# Altium footprint library PCB_IntegratedCircuit.PcbLib: 36 footprints (part 1 of 3)
Each footprint in its own frame and in the unit in brackets; x right, y up, seen from the top. Pads: shape width x height; smd on the part's side, far side on the other; paste and mask are expansions set on the pad; w line width, h text height; cw(c..) or ccw(c..) is an arc to the next point about the centre after c.
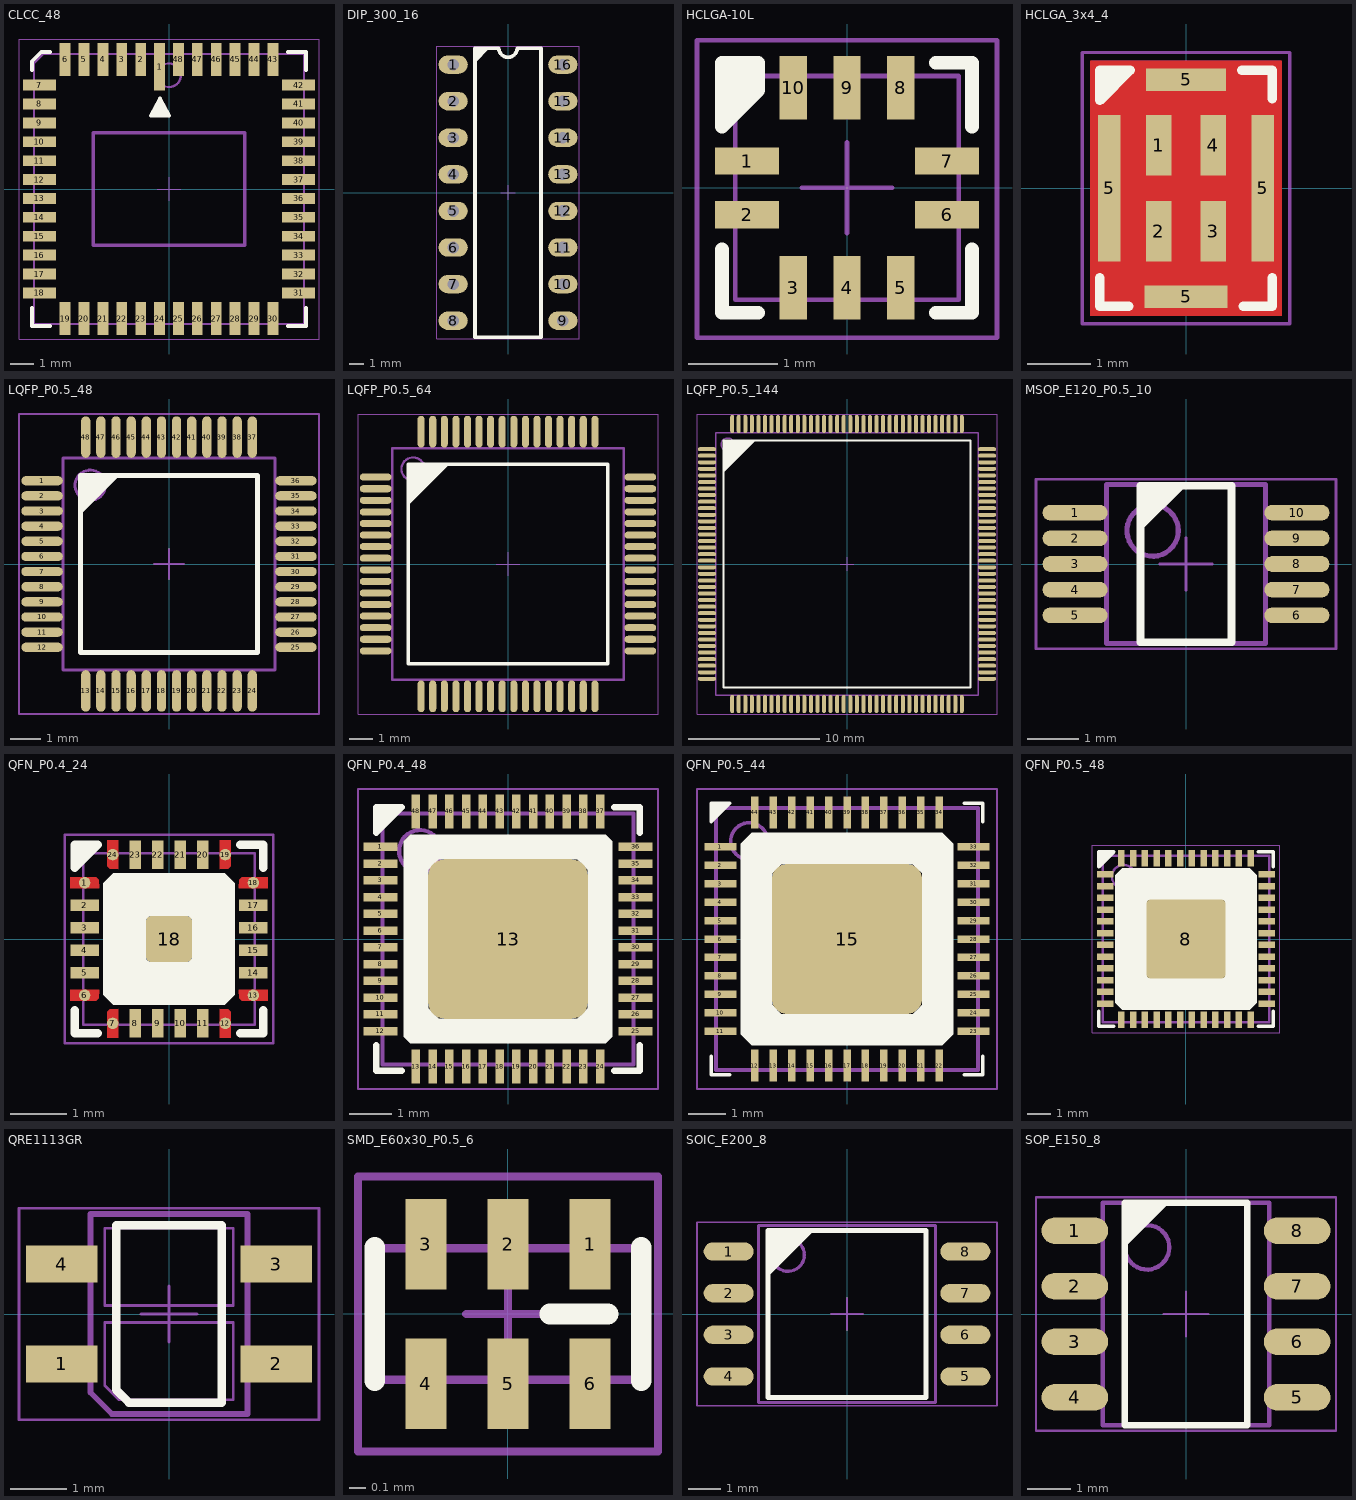
[diagram p0: the footprints below, top view; thin cyan lines are the x and y axes]

## CLCC_48 [mil]
height 90.55
pads (48):
  rect 18x79 smd: 1(-15.75,204)
  rect 18x55 smd: 2(-47.24,216) 3(-78.74,216) 4(-110.24,216) 5(-141.73,216) 6(-173.23,216) 19(-173.23,-216) 20(-141.73,-216) 21(-110.24,-216) 22(-78.74,-216) 23(-47.24,-216) 24(-15.75,-216) 25(15.75,-216) 26(47.24,-216) 27(78.74,-216) 28(110.24,-216) 29(141.73,-216) 30(173.23,-216) 43(173.23,216) 44(141.73,216) 45(110.24,216) 46(78.74,216) 47(47.24,216) 48(15.75,216)
  rect 55x18 smd: 7(-216,173.23) 8(-216,141.73) 9(-216,110.24) 10(-216,78.74) 11(-216,47.24) 12(-216,15.75) 13(-216,-15.75) 14(-216,-47.24) 15(-216,-78.74) 16(-216,-110.24) 17(-216,-141.73) 18(-216,-173.23) 31(216,-173.23) 32(216,-141.73) 33(216,-110.24) 34(216,-78.74) 35(216,-47.24) 36(216,-15.75) 37(216,15.75) 38(216,47.24) 39(216,78.74) 40(216,110.24) 41(216,141.73) 42(216,173.23)
Top Overlay:
  region: -15,151 -30.26,122 0.26,122
  lines w6: -228.35,-197.83 -228.35,-228.35 -197.83,-228.35 ; -228.35,197.83 -228.35,213.09 -213.09,228.35 -197.83,228.35 ; 197.83,-228.35 228.35,-228.35 228.35,-197.83 ; 197.83,228.35 228.35,228.35 228.35,197.83 ; -30.26,122 0.26,122 -15,151 -30.26,122
Mechanical 13:
  circle w3.94: c0,189.57 r19.68
  lines w2: -19.68,0 19.69,0 ; 0,-19.69 0,19.68
  lines w3.94: -225,-225 -225,209.74 -209.74,225 225,225 225,-225 -225,-225
  lines w6: -126,-94 -126,94 126,94 126,-94 -126,-94
T-Component:
  lines w2: -250,-250 250,-250 250,250 -250,250 -250,-250
3D body "User Library-CLCC48.STEP": height 79.69, standoff 0, extent -250,-250 250,250

## DIP_300_16 [mil]
pads (16):
  oval 80x50 hole 32: 1(-150,350) 2(-150,250) 3(-150,150) 4(-150,50) 5(-150,-50) 6(-150,-150) 7(-150,-250) 8(-150,-350) 9(150,-350) 10(150,-250) 11(150,-150) 12(150,-50) 13(150,50) 14(150,150) 15(150,250) 16(150,350)
Top Overlay:
  region: -90,394.69 -50.63,394.69 -90,355.31
  lines w10: -90,-395 90,-395 90,395 25,395 cw(c0,395) -25,395 -90,395 -90,-395
Mechanical 13:
  lines w2: -20,0 20,0 ; 0,-20 0,20
T-Component:
  lines w2: -195,-400 -195,400 195,400 195,-400 -195,-400
3D body "User Library-DIP16-22mm.STEP": height 202.76, standoff -98.03, extent -155,-433.07 154.84,433.07

## HCLGA-10L [mil]
height 31.5
pads (10):
  rect 28x12 smd: 1(-44,11.81) 2(-44,-11.81) 6(44,-11.81) 7(44,11.81)
  rect 12x28 smd: 3(-23.62,-44) 4(0,-44) 5(23.62,-44) 8(23.62,44) 9(0,44) 10(-23.62,44)
Top Overlay:
  region: -39,43 -39,55 -55,55 -55,27
  lines w6: -55,-27 -55,-55 -39,-55 ; 39,-55 55,-55 55,-27 ; 39,55 55,55 55,27 ; -55,27 -55,55 -39,55 -39,43 -55,27
Mechanical 13:
  lines w2: -20,0 20,0 ; 0,-20 0,20 ; -49.21,-49.21 -49.21,49.21 49.21,49.21 49.21,-49.21 -49.21,-49.21
T-Component:
  lines w2: -66,-66 66,-66 66,65 -66,65 -66,-66
3D body "User Library-DSK-10.STEP": height 33.3, standoff -0.17, extent -52.95,-51.1 53.35,51.26

## HCLGA_3x4_4 [mil]
pads (8):
  rect 16x38 smd: 1(-17,27) 2(-17,-27) 3(17,-27) 4(17,27)
  rect 14x92 smd: 5(-48,0) 5(48,0)
  rect 52x14 smd: 5(0,-68)
  rect 50x14 smd: 5(0,68)
Top Layer:
  pour cut-out: -60,80 60,80 60,-80 -60,-80
Top Overlay:
  region: -54,74 -35,74 -54,55
  lines w6: -54,-56 -54,-74 -36,-74 ; 35,74 54,74 54,56 ; 36,-74 54,-74 54,-56 ; -54,55 -54,74 -35,74 -54,55
Mechanical 13:
  circle w2: c0,-19.68 r15.75
  lines w2: -15,0 15,0 ; -0.01,-15.01 -0.01,14.99 ; -59,-79 59,-79 59,79 -59,79 -59,-79
T-Component:
  lines w2: -65,-85 -65,85 65,85 65,-85 -65,-85
3D body "User Library-DFN12(3x4).STEP": height 29.92, standoff 0, extent -59.09,-78.74 59.09,78.73

## LQFP_P0.5_48 [mil]
height 62.99
pads (48):
  oval 54x12 smd: 1(-165,108.27) 2(-165,88.58) 3(-165,68.9) 4(-165,49.21) 5(-165,29.53) 6(-165,9.84) 7(-165,-9.84) 8(-165,-29.53) 9(-165,-49.21) 10(-165,-68.9) 11(-165,-88.58) 12(-165,-108.27) 25(165,-108.27) 26(165,-88.58) 27(165,-68.9) 28(165,-49.21) 29(165,-29.53) 30(165,-9.84) 31(165,9.84) 32(165,29.53) 33(165,49.21) 34(165,68.9) 35(165,88.58) 36(165,108.27)
  oval 12x54 smd: 13(-108.27,-165) 14(-88.58,-165) 15(-68.9,-165) 16(-49.21,-165) 17(-29.53,-165) 18(-9.84,-165) 19(9.84,-165) 20(29.53,-165) 21(49.21,-165) 22(68.9,-165) 23(88.58,-165) 24(108.27,-165) 37(108.27,165) 38(88.58,165) 39(68.9,165) 40(49.21,165) 41(29.53,165) 42(9.84,165) 43(-9.84,165) 44(-29.53,165) 45(-49.21,165) 46(-68.9,165) 47(-88.58,165) 48(-108.27,165)
Top Overlay:
  region: -115,115 -65,115 -115,65
  lines w6: -115,-115 115,-115 115,115 -115,115 -115,-115
Mechanical 13:
  circle w3.94: c-102.36,102.36 r19.68
  lines w2: -20,0 20,0 ; 0,-20 0,20
  lines w3.94: -137.8,-137.8 137.8,-137.8 137.8,137.8 -137.8,137.8 -137.8,-137.8
T-Component:
  lines w2: -195,-195 -195,195 195,195 195,-195 -195,-195
3D body "SW3dPS-Quad50M48.STEP": height 61.42, standoff 0, extent -177.16,-177.66 177.17,176.67

## LQFP_P0.5_64 [mil]
height 47.24
pads (64):
  oval 54x12 smd: 1(-225,147.64) 2(-225,127.95) 3(-225,108.27) 4(-225,88.58) 5(-225,68.9) 6(-225,49.21) 7(-225,29.53) 8(-225,9.84) 9(-225,-9.84) 10(-225,-29.53) 11(-225,-49.21) 12(-225,-68.9) 13(-225,-88.58) 14(-225,-108.27) 15(-225,-127.95) 16(-225,-147.64) 33(225,-147.64) 34(225,-127.95) 35(225,-108.27) 36(225,-88.58) 37(225,-68.9) 38(225,-49.21) 39(225,-29.53) 40(225,-9.84) 41(225,9.84) 42(225,29.53) 43(225,49.21) 44(225,68.9) 45(225,88.58) 46(225,108.27) 47(225,127.95) 48(225,147.64)
  oval 12x54 smd: 17(-147.64,-225) 18(-127.95,-225) 19(-108.27,-225) 20(-88.58,-225) 21(-68.9,-225) 22(-49.21,-225) 23(-29.53,-225) 24(-9.84,-225) 25(9.84,-225) 26(29.53,-225) 27(49.21,-225) 28(68.9,-225) 29(88.58,-225) 30(108.27,-225) 31(127.95,-225) 32(147.64,-225) 49(147.64,225) 50(127.95,225) 51(108.27,225) 52(88.58,225) 53(68.9,225) 54(49.21,225) 55(29.53,225) 56(9.84,225) 57(-9.84,225) 58(-29.53,225) 59(-49.21,225) 60(-68.9,225) 61(-88.58,225) 62(-108.27,225) 63(-127.95,225) 64(-147.64,225)
Top Overlay:
  region: -169.29,169.29 -100,169.29 -169.29,100
  lines w6: -169.29,-169.29 169.29,-169.29 169.29,169.29 -169.29,169.29 -169.29,-169.29
Mechanical 13:
  circle w3.94: c-161.42,161.42 r19.68
  lines w2: -20,0 20,0 ; 0,-20 0,20
  lines w3.94: -196.85,-196.85 196.85,-196.85 196.85,196.85 -196.85,196.85 -196.85,-196.85
T-Component:
  lines w2: -255,-255 255,-255 255,255 -255,255 -255,-255
3D body "User Library-lqpf64.STEP": height 59.06, standoff 0.79, extent -236.21,-236.21 236.23,236.23

## LQFP_P0.5_144 [mil]
height 62.99
pads (144):
  oval 54x12 smd: 1(-420,344.49) 2(-420,324.8) 3(-420,305.12) 4(-420,285.43) 5(-420,265.75) 6(-420,246.06) 7(-420,226.38) 8(-420,206.69) 9(-420,187.01) 10(-420,167.32) 11(-420,147.64) 12(-420,127.95) 13(-420,108.27) 14(-420,88.58) 15(-420,68.9) 16(-420,49.21) 17(-420,29.53) 18(-420,9.84) 19(-420,-9.84) 20(-420,-29.53) 21(-420,-49.21) 22(-420,-68.9) 23(-420,-88.58) 24(-420,-108.27) 25(-420,-127.95) 26(-420,-147.64) 27(-420,-167.32) 28(-420,-187.01) 29(-420,-206.69) 30(-420,-226.38) 31(-420,-246.06) 32(-420,-265.75) 33(-420,-285.43) 34(-420,-305.12) 35(-420,-324.8) 36(-420,-344.49) 73(420,-344.49) 74(420,-324.8) 75(420,-305.12) 76(420,-285.43) 77(420,-265.75) 78(420,-246.06) 79(420,-226.38) 80(420,-206.69) 81(420,-187.01) 82(420,-167.32) 83(420,-147.64) 84(420,-127.95) 85(420,-108.27) 86(420,-88.58) 87(420,-68.9) 88(420,-49.21) 89(420,-29.53) 90(420,-9.84) 91(420,9.84) 92(420,29.53) 93(420,49.21) 94(420,68.9) 95(420,88.58) 96(420,108.27) 97(420,127.95) 98(420,147.64) 99(420,167.32) 100(420,187.01) 101(420,206.69) 102(420,226.38) 103(420,246.06) 104(420,265.75) 105(420,285.43) 106(420,305.12) 107(420,324.8) 108(420,344.49)
  oval 12x54 smd: 37(-344.49,-420) 38(-324.8,-420) 39(-305.12,-420) 40(-285.43,-420) 41(-265.75,-420) 42(-246.06,-420) 43(-226.38,-420) 44(-206.69,-420) 45(-187.01,-420) 46(-167.32,-420) 47(-147.64,-420) 48(-127.95,-420) 49(-108.27,-420) 50(-88.58,-420) 51(-68.9,-420) 52(-49.21,-420) 53(-29.53,-420) 54(-9.84,-420) 55(9.84,-420) 56(29.53,-420) 57(49.21,-420) 58(68.9,-420) 59(88.58,-420) 60(108.27,-420) 61(127.95,-420) 62(147.64,-420) 63(167.32,-420) 64(187.01,-420) 65(206.69,-420) 66(226.38,-420) 67(246.06,-420) 68(265.75,-420) 69(285.43,-420) 70(305.12,-420) 71(324.8,-420) 72(344.49,-420) 109(344.49,420) 110(324.8,420) 111(305.12,420) 112(285.43,420) 113(265.75,420) 114(246.06,420) 115(226.38,420) 116(206.69,420) 117(187.01,420) 118(167.32,420) 119(147.64,420) 120(127.95,420) 121(108.27,420) 122(88.58,420) 123(68.9,420) 124(49.21,420) 125(29.53,420) 126(9.84,420) 127(-9.84,420) 128(-29.53,420) 129(-49.21,420) 130(-68.9,420) 131(-88.58,420) 132(-108.27,420) 133(-127.95,420) 134(-147.64,420) 135(-167.32,420) 136(-187.01,420) 137(-206.69,420) 138(-226.38,420) 139(-246.06,420) 140(-265.75,420) 141(-285.43,420) 142(-305.12,420) 143(-324.8,420) 144(-344.49,420)
Top Overlay:
  region: -370,370 -275,370 -370,275
  lines w6: -370,-370 -370,370 370,370 370,-370 -370,-370
Mechanical 13:
  circle w4: c-358.27,358.27 r19.68
  lines w2: -20,0 20,0 ; 0,-20 0,20
  lines w4: -393.7,-393.7 -393.7,393.7 393.7,393.7 393.7,-393.7 -393.7,-393.7
T-Component:
  lines w2: -450,-450 450,-450 450,450 -450,450 -450,-450
3D body "User Library-LQFP144.STEP": height 62.99, standoff 0, extent -433.07,-433.07 433.08,433.07

## MSOP_E120_P0.5_10 [mil]
height 43.31
pads (10):
  oval 50x12 smd: 1(-85,39.37) 2(-85,19.69) 3(-85,0) 4(-85,-19.68) 5(-85,-39.37) 6(85,-39.37) 7(85,-19.68) 8(85,0) 9(85,19.69) 10(85,39.37)
Top Overlay:
  region: -35,60 0,60 -35,25
  lines w6: -35,-60 -35,60 35,60 35,-60 -35,-60
Mechanical 13:
  circle w3.94: c-25.59,25.59 r19.68
  lines w2: -20,0 20,0 ; 0,-20 0,20
  lines w3.94: -61.02,-61.02 61.02,-61.02 61.02,61.02 -61.02,61.02 -61.02,-61.02
T-Component:
  lines w2: -115,-65 115,-65 115,65 -115,65 -115,-65
3D body "User Library-msop-10.STEP": height 45.28, standoff 0, extent -96.45,-59.05 96.47,59.06

## QFN_P0.4_24 [mil]
height 39.37
pads (25):
  round 8 smd mask+0: 1(-59,39.37) 6(-59,-39.37) 7(-39.37,-59) 12(39.37,-59) 13(59,-39.37) 18(59,39.37) 19(39.37,59) 24(-39.37,59)
  rect 20x8 smd mask+1: 2(-59,23.62) 3(-59,7.87) 4(-59,-7.87) 5(-59,-23.62) 14(59,-23.62) 15(59,-7.87) 16(59,7.87) 17(59,23.62)
  rect 8x20 smd mask+1: 8(-23.62,-59) 9(-7.87,-59) 10(7.87,-59) 11(23.62,-59) 20(23.62,59) 21(7.87,59) 22(-7.87,59) 23(-23.62,59)
  rrect20% 32x32 smd: 18(0,0)
Top Layer:
  region: 35.37,-69 35.37,-49 41.37,-49 43.37,-51 43.37,-69
  region: -69,-35.37 -49,-35.37 -49,-41.37 -51,-43.37 -69,-43.37
  region: 69,35.37 49,35.37 49,41.37 51,43.37 69,43.37
  region: -35.37,69 -35.37,49 -41.37,49 -43.37,51 -43.37,69
  region: -69,43.37 -51,43.37 -49,41.37 -49,35.37 -69,35.37
  region: -43.37,-69 -43.37,-51 -41.37,-49 -35.37,-49 -35.37,-69
  region: 69,-43.37 51,-43.37 49,-41.37 49,-35.37 69,-35.37
  region: 43.37,69 43.37,51 41.37,49 35.37,49 35.37,69
Top Overlay:
  region: -66,66 -50,66 -66,50
  region: -39,46 39,46 46,39 46,-39 39,-46 12,-46 12,-16 14,-16 16,-14 16,14 14,16 -14,16 -16,14 -16,-14 -14,-16 12,-16 12,-46 -39,-46 -46,-39 -46,39
  lines w6: -66,-50 -66,-66 -50,-66 ; 50,-66 66,-66 66,-50 ; 50,66 66,66 66,50 ; -66,50 -50,66 -66,66 -66,50
Top Solder:
  rectangle: -46,-71 46,-47
  region: -71,46 -71,-46 -47,-46 -47,46
  region: 47,46 47,-46 71,-46 71,46
  rectangle: -46,47 46,71
  region: -34.45,69.88 -34.45,48.23 -41.77,48.23 -44.29,50.75 -44.29,69.88
  region: 69.88,-44.29 50.75,-44.29 48.23,-41.77 48.23,-34.45 69.88,-34.45
  region: 44.29,69.88 44.29,50.75 41.77,48.23 34.45,48.23 34.45,69.88
  region: 69.88,34.45 48.23,34.45 48.23,41.77 50.75,44.29 69.88,44.29
Mechanical 13:
  lines w2: -20,0 20,0 ; 0,-20 0,20 ; -60,-60 -60,60 60,60 60,-60 -60,-60
T-Component:
  lines w2: -73,-73 73,-73 73,73 -73,73 -73,-73
3D body "User Library-QFN-16.STEP": height 35.43, standoff 0, extent -59.09,-59.09 59.1,59.1

## QFN_P0.4_48 [mil]
height 35.43
pads (49):
  rect 32x8 smd: 1(-120,86.61) 2(-120,70.87) 3(-120,55.12) 4(-120,39.37) 5(-120,23.62) 6(-120,7.87) 7(-120,-7.87) 8(-120,-23.62) 9(-120,-39.37) 10(-120,-55.12) 11(-120,-70.87) 12(-120,-86.61) 25(120,-86.61) 26(120,-70.87) 27(120,-55.12) 28(120,-39.37) 29(120,-23.62) 30(120,-7.87) 31(120,7.87) 32(120,23.62) 33(120,39.37) 34(120,55.12) 35(120,70.87) 36(120,86.61)
  rect 8x32 smd: 13(-86.61,-120) 14(-70.87,-120) 15(-55.12,-120) 16(-39.37,-120) 17(-23.62,-120) 18(-7.87,-120) 19(7.87,-120) 20(23.62,-120) 21(39.37,-120) 22(55.12,-120) 23(70.87,-120) 24(86.61,-120) 37(86.61,120) 38(70.87,120) 39(55.12,120) 40(39.37,120) 41(23.62,120) 42(7.87,120) 43(-7.87,120) 44(-23.62,120) 45(-39.37,120) 46(-55.12,120) 47(-70.87,120) 48(-86.61,120)
  rrect20% 150x150 smd: 13(0,0)
Top Overlay:
  region: -98,92 -92,98 -65,98 -65,75 -75,65 -75,-65 -65,-75 65,-75 75,-65 75,65 65,75 -65,75 -65,98 92,98 98,92 98,-92 92,-98 -92,-98 -98,-92
  region: -124.02,124.02 -100,124.02 -124.02,100
  lines w6: -124.02,-100 -124.02,-124.02 -100,-124.02 ; 100,-124.02 124.02,-124.02 124.02,-100 ; 100,124.02 124.02,124.02 124.02,100 ; -124.02,100 -100,124.02 -124.02,124.02 -124.02,100
Mechanical 13:
  circle w3.94: c-82.68,82.68 r19.68
  lines w2: -20,0 20,0 ; 0,-20 0,20
  lines w3.94: -118.11,-118.11 118.11,-118.11 118.11,118.11 -118.11,118.11 -118.11,-118.11
T-Component:
  lines w2: -141,-141 141,-141 141,141 -141,141 -141,-141
3D body "User Library-QFN48.STEP": height 33.39, standoff -0.79, extent -118.8,-118.9 119,118.9

## QFN_P0.5_44 [mil]
height 39.37
pads (45):
  rect 34x8 smd: 1(-135,98.43) 2(-135,78.74) 3(-135,59.06) 4(-135,39.37) 5(-135,19.68) 6(-135,0) 7(-135,-19.69) 8(-135,-39.37) 9(-135,-59.06) 10(-135,-78.74) 11(-135,-98.43) 23(135,-98.43) 24(135,-78.74) 25(135,-59.06) 26(135,-39.37) 27(135,-19.69) 28(135,0) 29(135,19.68) 30(135,39.37) 31(135,59.06) 32(135,78.74) 33(135,98.43)
  rect 8x34 smd: 12(-98.43,-135) 13(-78.74,-135) 14(-59.06,-135) 15(-39.37,-135) 16(-19.68,-135) 17(0,-135) 18(19.69,-135) 19(39.37,-135) 20(59.06,-135) 21(78.74,-135) 22(98.43,-135) 34(98.43,135) 35(78.74,135) 36(59.06,135) 37(39.37,135) 38(19.69,135) 39(0,135) 40(-19.68,135) 41(-39.37,135) 42(-59.06,135) 43(-78.74,135) 44(-98.43,135)
  rrect20% 160x160 smd: 15(0,0)
Top Overlay:
  region: -144.91,144.91 -125,144.91 -144.91,125
  region: 113.14,101.86 113.14,-101.86 101.86,-113.14 -101.86,-113.14 -113.14,-101.86 -113.14,101.86 -101.86,113.14 101.86,113.14 107.5,107.5 75,75 70,80 -70,80 -80,70 -80,-70 -70,-80 70,-80 80,-70 80,70 75,75 107.5,107.5
  lines w4: -144.91,-125 -144.91,-144.91 -125,-144.91 ; 125,-144.91 144.91,-144.91 144.91,-125 ; 125,144.91 144.91,144.91 144.91,125 ; -144.91,125 -144.91,144.91 -125,144.91 -144.91,125
Mechanical 13:
  circle w3.94: c-104.33,104.33 r19.68
  lines w2: -20,0 20,0 ; 0,-20 0,20
  lines w4: -139.76,-139.76 139.76,-139.76 139.76,139.76 -139.76,139.76 -139.76,-139.76
T-Component:
  lines w2: -160,-160 -160,160 160,160 160,-160 -160,-160
3D body "User Library-smd_qfn-44-2.STEP": height 35.43, standoff 0, extent -137.67,-138 138,137.67

## QFN_P0.5_48 [mil]
height 21.65
pads (49):
  rect 28x11 smd mask+1: 1(-135,108.27) 2(-135,88.58) 3(-135,68.9) 4(-135,49.21) 5(-135,29.53) 6(-135,9.84) 7(-135,-9.84) 8(-135,-29.53) 9(-135,-49.21) 10(-135,-68.9) 11(-135,-88.58) 12(-135,-108.27) 25(135,-108.27) 26(135,-88.58) 27(135,-68.9) 28(135,-49.21) 29(135,-29.53) 30(135,-9.84) 31(135,9.84) 32(135,29.53) 33(135,49.21) 34(135,68.9) 35(135,88.58) 36(135,108.27)
  rrect10% 132x132 smd: 8(0,0)
  rect 11x28 smd mask+1: 13(-108.27,-135) 14(-88.58,-135) 15(-68.9,-135) 16(-49.21,-135) 17(-29.53,-135) 18(-9.84,-135) 19(9.84,-135) 20(29.53,-135) 21(49.21,-135) 22(68.9,-135) 23(88.58,-135) 24(108.27,-135) 37(108.27,135) 38(88.58,135) 39(68.9,135) 40(49.21,135) 41(29.53,135) 42(9.84,135) 43(-9.84,135) 44(-29.53,135) 45(-49.21,135) 46(-68.9,135) 47(-88.58,135) 48(-108.27,135)
Top Overlay:
  region: 118,107 118,-107 107,-118 -107,-118 -118,-107 -118,107 -107,118 107,118 112.5,112.5 64,64 61.99,66 -62,66 -66,62 -66,-62 -62,-66 62,-66 66,-62 66,61.99 64,64 112.5,112.5
  region: -145.67,145.67 -121,145.67 -145.67,121
  lines w6: -145.67,-121 -145.67,-145.67 -121,-145.67 ; 121,-145.67 145.67,-145.67 145.67,-121 ; 121,145.67 145.67,145.67 145.67,121 ; -145.67,121 -121,145.67 -145.67,145.67 -145.67,121
Top Solder:
  rectangle: -116,119 116,151
  region: 119,116 119,-116 151,-116 151,116
  rectangle: -116,-151 116,-119
  region: -151,116 -151,-116 -119,-116 -119,116
Mechanical 13:
  circle w3.94: c-104.33,104.33 r19.68
  lines w2: -19.69,0 19.68,0 ; 0,-19.68 0,19.69
  lines w4: -139,-139 139,-139 139,139 -139,139 -139,-139
T-Component:
  lines w2: -157,-157 157,-157 157,157 -157,157 -157,-157
3D body "User Library-QFN48_7x7.STEP": height 30.71, standoff -0.79, extent -138.18,-138.2 138.2,138.18

## QRE1113GR [mil]
height 66.93
pads (4):
  rect 50x26 smd: 1(-75,-35) 2(75,-35) 3(75,35) 4(-75,35)
Top Overlay:
  lines w6: -37,-53 -28,-62 37,-62 37,62 -37,62 -37,-53
Mechanical 13:
  lines w2: -19.69,0 19.68,0 ; 0,-19.68 0,19.69 ; -45,-50 -35,-60 45,-60 45,-6 -45,-6 -45,-50 ; -45,6 45,6 45,60 -45,60 -45,6
  lines w4: -55,-55 -40,-70 55,-70 55,70 -55,70 -55,-55
T-Component:
  lines w1.97: -105,-74 105,-74 105,74 -105,74 -105,-74

## SMD_E60x30_P0.5_6 [mm]
pads (6):
  rect 0.25x0.55 smd: 1(0.5,0.425) 2(0,0.425) 3(-0.5,0.425) 4(-0.5,-0.425) 5(0,-0.425) 6(0.5,-0.425)
Top Overlay:
  lines w0.127: -0.813,-0.406 -0.813,0.406 ; 0.254,0 0.61,0 ; 0.813,-0.406 0.813,0.406
Mechanical 13:
  lines w0.051: -0.254,0 0.254,0 ; 0,-0.254 0,0.254 ; -0.8,-0.4 0.8,-0.4 0.8,0.4 -0.8,0.4 -0.8,-0.4 ; -0.8,-0.4 -0.8,-0.4
T-Component:
  lines w0.051: -0.914,-0.838 0.914,-0.838 0.914,0.838 -0.914,0.838 -0.914,-0.838
3D body: height 0.62, standoff 0, extent 0.4,-0.045 0.6,0.035
3D body: height 0.62, standoff 0, extent 0.4,-0.415 0.6,-0.265
3D body: height 0.62, standoff 0, extent -0.1,-0.415 0.1,-0.265
3D body: height 0.62, standoff 0, extent -0.6,-0.415 -0.4,-0.265
3D body: height 0.62, standoff 0, extent -0.6,0.255 -0.4,0.405
3D body: height 0.62, standoff 0, extent -0.1,0.255 0.1,0.405
3D body: height 0.62, standoff 0, extent 0.4,0.255 0.6,0.405
3D body: height 0.6, standoff 0, extent -0.8,-0.4 0.8,0.4

## SOIC_E200_8 [mil]
height 85.04
pads (8):
  oval 60x22 smd: 1(-142,75) 2(-142,25) 3(-142,-25) 4(-142,-75) 5(142,-75) 6(142,-25) 7(142,25) 8(142,75)
Top Overlay:
  region: -95,100 -40,100 -95,45
  lines w6: -95,-100 -95,100 95,100 95,-100 -95,-100
Mechanical 13:
  circle w3.94: c-70.87,70.87 r19.68
  lines w2: -19.69,0 19.68,0 ; 0,-19.68 0,19.68
  lines w4: -106.3,-106.3 -106.3,106.3 106.3,106.3 106.3,-106.3 -106.3,-106.3
T-Component:
  lines w2: -180,-110 180,-110 180,110 -180,110 -180,-110
3D body "User Library-SOIC-8-208.STEP": height 84.37, standoff -0.28, extent -161.42,-106.29 161.42,106.3

## SOP_E150_8 [mil]
height 68.9
pads (8):
  oval 60x24 smd: 1(-100,75) 2(-100,25) 3(-100,-25) 4(-100,-75) 5(100,-75) 6(100,-25) 7(100,25) 8(100,75)
Top Overlay:
  region: -55,100 -15,100 -55,60
  lines w6: -55,-100 55,-100 55,100 -55,100 -55,-100
Mechanical 13:
  circle w4: c-35,60 r20
  lines w2: -20,0 20,0 ; 0,-20 0,20
  lines w4: -75,-100 -75,100 75,100 75,-100 -75,-100
T-Component:
  lines w2: -135,-105 135,-105 135,105 -135,105 -135,-105
3D body "User Library-SOIC-8-1.STEP": height 68.9, standoff 0, extent -118.1,-96.46 118.11,96.46